# Altium schematic symbol library LA55-P.SchLib: 1 symbol
Pins are listed as number, name and electrical type; pins without a type are passive.

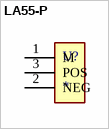
[diagram p0: symbol LA55-P]

## LA55-P
designator U?
Current Sensor 50A 1 Channel Hall Effect, Closed Loop Bidirectional Module, Single Pass Through; MF: LEM USA; MP: LA 55-P; Package: Module LEM USA; Price: None; Check_prices: https://www.snapeda.com/parts/LA%2055-P/LEM+USA+Inc./view-part/?ref=eda; Value: *; SnapEDA_Link: https://www.snapeda.com/parts/LA%2055-P/LEM+USA+Inc./view-part/?ref=snap; Availability: In Stock; Purchase-URL: https://pricing.snapeda.com/search?q=LA 55-P&ref=eda
footprint XDCR_LA55-P
pins: 1 M (power), 2 NEG (power), 3 POS (power)